# Altium schematic symbol library SCH - MEMORY - Microchip 24C65.Schlib: 1 symbol
Pins are listed as number, name and electrical type; pins without a type are passive.

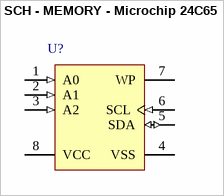
[diagram p0: symbol SCH - MEMORY - Microchip 24C65]

## SCH - MEMORY - Microchip 24C65
designator U?
footprint SOP8 (SOP, 8-Leads, Body 5,0x4,0mm (max), Pitch 1,27mm, IPC Medium Density)
pins: 1 A0 (in), 2 A1 (in), 3 A2 (in), 4 VSS (power), 5 SDA (io), 6 SCL (in), 7 WP, 8 VCC (power)